# Altium footprint library MOTHERBOARD.PcbLib: 63 footprints (part 3 of 4)
Each footprint in its own frame and in the unit in brackets; x right, y up, seen from the top. Pads: shape width x height; smd on the part's side, far side on the other; paste and mask are expansions set on the pad; w line width, h text height; cw(c..) or ccw(c..) is an arc to the next point about the centre after c.
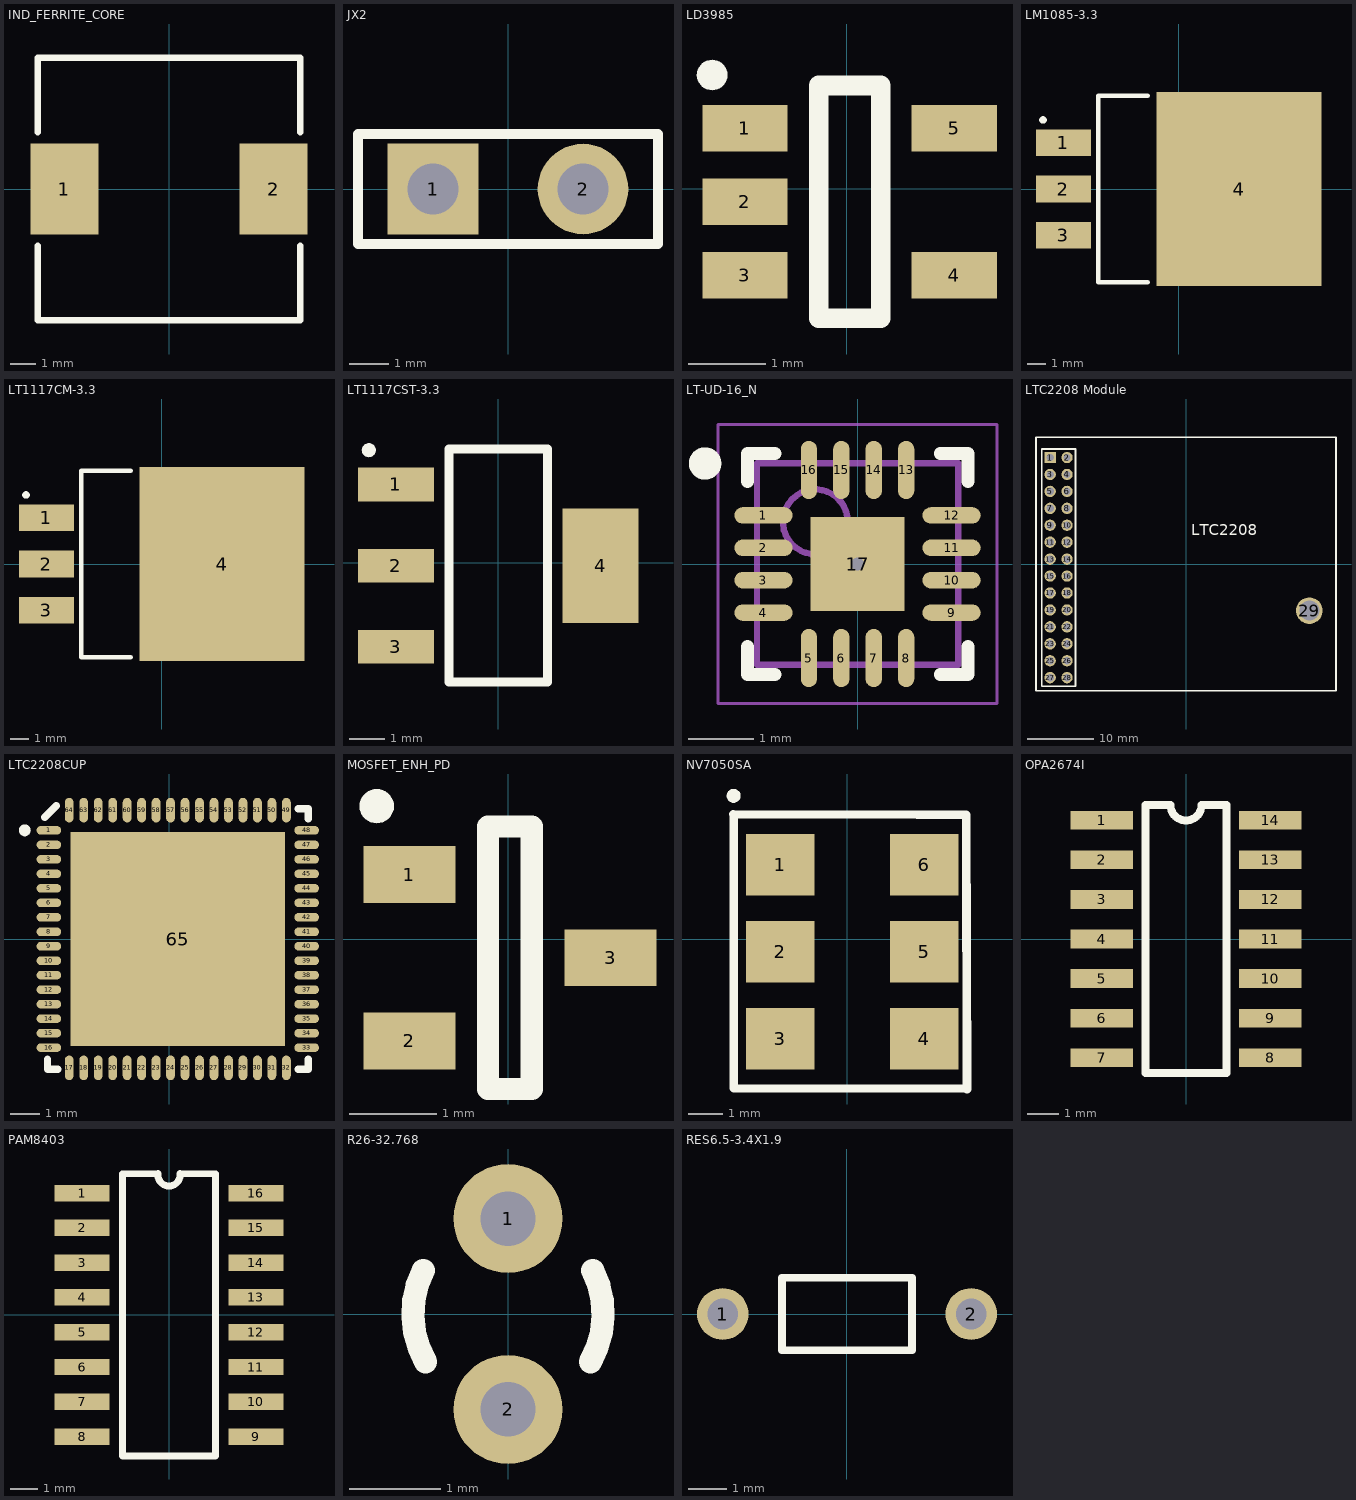
[diagram p2: the footprints below, top view; thin cyan lines are the x and y axes]

## IND_FERRITE_CORE [mm]
pads (2):
  rect 2.7x3.6 smd: 1(-4.15,0) 2(4.15,0)
Top Overlay:
  lines w0.254: -5.2,-2.25 -5.2,-5.2 5.2,-5.2 5.2,-2.25 ; -5.2,2.25 -5.2,5.2 5.2,5.2 5.2,2.25

## JX2 [mm]
pads (2):
  rect 2.3x2.3 hole 1.3: 1(-1.905,0)
  round 2.3 hole 1.3: 2(1.905,0)
Top Overlay:
  lines w0.254: -3.81,-1.4 3.81,-1.4 3.81,1.4 -3.81,1.4 -3.81,-1.4

## LD3985 [mm]
pads (5):
  rect 1.1x0.6 smd: 1(-1.316,0.785) 2(-1.316,-0.165) 3(-1.316,-1.115) 4(1.384,-1.115) 5(1.384,0.785)
Top Overlay:
  region: -1.543,1.469 -1.546,1.503 -1.555,1.536 -1.569,1.567 -1.589,1.595 -1.613,1.619 -1.641,1.638 -1.672,1.653 -1.704,1.662 -1.738,1.665 -1.772,1.662 -1.805,1.653 -1.836,1.638 -1.864,1.619 -1.888,1.595 -1.908,1.567 -1.922,1.536 -1.931,1.503 -1.934,1.469 -1.931,1.435 -1.922,1.402 -1.908,1.371 -1.888,1.343 -1.864,1.319 -1.836,1.3 -1.805,1.285 -1.772,1.276 -1.738,1.273 -1.704,1.276 -1.672,1.285 -1.641,1.3 -1.613,1.319 -1.589,1.343 -1.569,1.371 -1.555,1.402 -1.546,1.435
  lines w0.254: -0.365,-1.665 -0.365,1.335 0.435,1.335 0.435,-1.665 -0.365,-1.665

## LM1085-3.3 [mm]
pads (4):
  rect 3x1.45 smd: 1(-6.3,2.54) 2(-6.3,0) 3(-6.3,-2.54)
  rect 9x10.6 smd: 4(3.3,0)
Top Overlay:
  region: -7.223,3.776 -7.226,3.81 -7.235,3.843 -7.249,3.874 -7.269,3.902 -7.293,3.926 -7.321,3.946 -7.352,3.96 -7.385,3.969 -7.419,3.972 -7.453,3.969 -7.485,3.96 -7.517,3.946 -7.544,3.926 -7.569,3.902 -7.588,3.874 -7.603,3.843 -7.611,3.81 -7.614,3.776 -7.611,3.742 -7.603,3.709 -7.588,3.678 -7.569,3.651 -7.544,3.626 -7.517,3.607 -7.485,3.592 -7.453,3.584 -7.419,3.581 -7.385,3.584 -7.352,3.592 -7.321,3.607 -7.293,3.626 -7.269,3.651 -7.249,3.678 -7.235,3.709 -7.226,3.742
  lines w0.254: -1.7,-5.1 -4.401,-5.1 -4.401,5.1 -1.7,5.1

## LT1117CM-3.3 [mm]
pads (4):
  rect 3x1.45 smd: 1(-6.3,2.54) 2(-6.3,0) 3(-6.3,-2.54)
  rect 9x10.6 smd: 4(3.3,0)
Top Overlay:
  region: -7.223,3.776 -7.226,3.81 -7.235,3.843 -7.249,3.874 -7.269,3.902 -7.293,3.926 -7.321,3.946 -7.352,3.96 -7.385,3.969 -7.419,3.972 -7.453,3.969 -7.485,3.96 -7.517,3.946 -7.544,3.926 -7.569,3.902 -7.588,3.874 -7.603,3.843 -7.611,3.81 -7.614,3.776 -7.611,3.742 -7.603,3.709 -7.588,3.678 -7.569,3.651 -7.544,3.626 -7.517,3.607 -7.485,3.592 -7.453,3.584 -7.419,3.581 -7.385,3.584 -7.352,3.592 -7.321,3.607 -7.293,3.626 -7.269,3.651 -7.249,3.678 -7.235,3.709 -7.226,3.742
  lines w0.254: -1.7,-5.1 -4.401,-5.1 -4.401,5.1 -1.7,5.1

## LT1117CST-3.3 [mm]
pads (4):
  rect 2.15x0.95 smd: 1(-2.9,2.215) 2(-2.9,-0.085) 3(-2.9,-2.385)
  rect 2.15x3.25 smd: 4(2.9,-0.085)
Top Overlay:
  region: -3.471,3.189 -3.474,3.223 -3.483,3.256 -3.497,3.287 -3.517,3.315 -3.541,3.339 -3.569,3.358 -3.6,3.373 -3.633,3.381 -3.667,3.384 -3.701,3.381 -3.734,3.373 -3.765,3.358 -3.793,3.339 -3.817,3.315 -3.837,3.287 -3.851,3.256 -3.86,3.223 -3.863,3.189 -3.86,3.155 -3.851,3.122 -3.837,3.091 -3.817,3.063 -3.793,3.039 -3.765,3.019 -3.734,3.005 -3.701,2.996 -3.667,2.993 -3.633,2.996 -3.6,3.005 -3.569,3.019 -3.541,3.039 -3.517,3.063 -3.497,3.091 -3.483,3.122 -3.474,3.155
  lines w0.254: -1.4,-3.384 -1.4,3.215 1.4,3.215 1.4,-3.384 -1.4,-3.384

## LT-UD-16_N [mm] "QFN, 16-Leads, Body 3x3mm, Pitch 0.5mm, Thermal Pad 1.45x1.45mm, IPC Medium Density"
height 0.8
pads (17):
  oval 0.9x0.25 smd: 1(-1.45,0.75) 2(-1.45,0.25) 3(-1.45,-0.25) 4(-1.45,-0.75) 9(1.45,-0.75) 10(1.45,-0.25) 11(1.45,0.25) 12(1.45,0.75)
  oval 0.25x0.9 smd: 5(-0.75,-1.45) 6(-0.25,-1.45) 7(0.25,-1.45) 8(0.75,-1.45) 13(0.75,1.45) 14(0.25,1.45) 15(-0.25,1.45) 16(-0.75,1.45)
  rect 1.45x1.45 smd: 17(0,0)
via 0,0 diameter 0.5 hole 0.2
Top Overlay:
  circle w0.25: c-2.35,1.55 r0.125
  lines w0.2: -1.7,-1.275 -1.7,-1.7 -1.275,-1.7 ; -1.7,1.275 -1.7,1.7 -1.275,1.7 ; 1.275,-1.7 1.7,-1.7 1.7,-1.275 ; 1.275,1.7 1.7,1.7 1.7,1.275
Mechanical 13:
  circle w0.1: c-0.65,0.65 r0.5
  lines w0.1: -1.55,-1.55 1.55,-1.55 1.55,1.55 -1.55,1.55 -1.55,-1.55
Mechanical 15:
  lines w0.05: -2.15,-2.15 2.15,-2.15 2.15,2.15 -2.15,2.15 -2.15,-2.15
  lines w0.1: -0.5,0 0.5,0 ; 0,-0.5 0,0.5
3D body: height 0.8, standoff 0, extent -1.55,-1.55 1.55,1.55

## LTC2208 Module [mm]
pads (29):
  rect 1.7x1.7 hole 1.1: 1(-20.38,15.97)
  round 1.7 hole 1.1: 2(-17.84,15.97) 3(-20.38,13.43) 4(-17.84,13.43) 5(-20.38,10.89) 6(-17.84,10.89) 7(-20.38,8.35) 8(-17.84,8.35) 9(-20.38,5.81) 10(-17.84,5.81) 11(-20.38,3.27) 12(-17.84,3.27) 13(-20.38,0.73) 14(-17.84,0.73) 15(-20.38,-1.81) 16(-17.84,-1.81) 17(-20.38,-4.35) 18(-17.84,-4.35) 19(-20.38,-6.89) 20(-17.84,-6.89) 21(-20.38,-9.43) 22(-17.84,-9.43) 23(-20.38,-11.97) 24(-17.84,-11.97) 25(-20.38,-14.51) 26(-17.84,-14.51) 27(-20.38,-17.05) 28(-17.84,-17.05)
  round 4 hole 3: 29(18.5,-7)
Top Overlay:
  lines w0.254: -22.5,-19 22.5,-19 22.5,19 -22.5,19 -22.5,-19 ; -21.649,-18.32 -16.569,-18.32 -16.569,17.241 -21.649,17.241 -21.649,-18.32
  text "LTC2208" at 0.8,4.298 h1.67

## LTC2208CUP [mm]
pads (65):
  oval 0.85x0.3 smd: 1(-4.147,3.75) 2(-4.147,3.25) 3(-4.147,2.75) 4(-4.147,2.25) 5(-4.147,1.75) 6(-4.147,1.25) 7(-4.147,0.75) 8(-4.147,0.25) 9(-4.147,-0.25) 10(-4.147,-0.75) 11(-4.147,-1.25) 12(-4.147,-1.75) 13(-4.147,-2.25) 14(-4.147,-2.75) 15(-4.147,-3.25) 16(-4.147,-3.75) 33(4.753,-3.75) 34(4.753,-3.25) 35(4.753,-2.75) 36(4.753,-2.25) 37(4.753,-1.75) 38(4.753,-1.25) 39(4.753,-0.75) 40(4.753,-0.25) 41(4.753,0.25) 42(4.753,0.75) 43(4.753,1.25) 44(4.753,1.75) 45(4.753,2.25) 46(4.753,2.75) 47(4.753,3.25) 48(4.753,3.75)
  oval 0.3x0.85 smd: 17(-3.447,-4.45) 18(-2.947,-4.45) 19(-2.447,-4.45) 20(-1.947,-4.45) 21(-1.447,-4.45) 22(-0.947,-4.45) 23(-0.447,-4.45) 24(0.053,-4.45) 25(0.553,-4.45) 26(1.053,-4.45) 27(1.553,-4.45) 28(2.053,-4.45) 29(2.553,-4.45) 30(3.053,-4.45) 31(3.553,-4.45) 32(4.053,-4.45) 49(4.053,4.45) 50(3.553,4.45) 51(3.053,4.45) 52(2.553,4.45) 53(2.053,4.45) 54(1.553,4.45) 55(1.053,4.45) 56(0.553,4.45) 57(0.053,4.45) 58(-0.447,4.45) 59(-0.947,4.45) 60(-1.447,4.45) 61(-1.947,4.45) 62(-2.447,4.45) 63(-2.947,4.45) 64(-3.447,4.45)
  rect 7.4x7.4 smd: 65(0.303,0)
Top Overlay:
  region: -4.779,3.75 -4.782,3.785 -4.791,3.818 -4.806,3.85 -4.826,3.879 -4.851,3.903 -4.879,3.923 -4.911,3.938 -4.944,3.947 -4.979,3.95 -5.013,3.947 -5.047,3.938 -5.078,3.923 -5.107,3.903 -5.132,3.879 -5.151,3.85 -5.166,3.818 -5.175,3.785 -5.178,3.75 -5.175,3.716 -5.166,3.682 -5.151,3.651 -5.132,3.622 -5.107,3.598 -5.078,3.578 -5.047,3.563 -5.013,3.554 -4.979,3.551 -4.944,3.554 -4.911,3.563 -4.879,3.578 -4.851,3.598 -4.826,3.622 -4.806,3.651 -4.791,3.682 -4.782,3.716
  lines w0.254: -4.293,4.2 -3.894,4.6 ; -4.192,-4.15 -4.192,-4.5 -3.842,-4.5 ; 4.453,-4.5 4.803,-4.5 4.803,-4.15 ; 4.453,4.5 4.803,4.5 4.803,4.15

## MOSFET_ENH_PD [mm]
pads (3):
  rect 1.05x0.65 smd: 1(-1.128,0.735) 2(-1.128,-1.165) 3(1.172,-0.215)
Top Overlay:
  region: -1.305,1.519 -1.308,1.553 -1.317,1.586 -1.332,1.617 -1.351,1.645 -1.375,1.669 -1.403,1.688 -1.434,1.703 -1.467,1.712 -1.501,1.715 -1.535,1.712 -1.568,1.703 -1.599,1.688 -1.627,1.669 -1.651,1.645 -1.671,1.617 -1.685,1.586 -1.694,1.553 -1.697,1.519 -1.694,1.485 -1.685,1.452 -1.671,1.421 -1.651,1.393 -1.627,1.369 -1.599,1.349 -1.568,1.335 -1.535,1.326 -1.501,1.323 -1.467,1.326 -1.434,1.335 -1.403,1.349 -1.375,1.369 -1.351,1.393 -1.332,1.421 -1.317,1.452 -1.308,1.485
  lines w0.254: -0.228,-1.715 -0.228,1.285 0.272,1.285 0.272,-1.715 -0.228,-1.715

## NV7050SA [mm]
pads (6):
  rect 2x1.8 smd: 1(-1.948,2.17) 2(-1.948,-0.37) 3(-1.948,-2.91) 4(2.252,-2.91) 5(2.252,-0.37) 6(2.252,2.17)
Top Overlay:
  region: -3.112,4.18 -3.115,4.215 -3.124,4.248 -3.139,4.28 -3.159,4.309 -3.183,4.333 -3.212,4.353 -3.244,4.368 -3.277,4.377 -3.312,4.38 -3.347,4.377 -3.381,4.368 -3.412,4.353 -3.441,4.333 -3.465,4.309 -3.485,4.28 -3.5,4.248 -3.509,4.215 -3.512,4.18 -3.509,4.145 -3.5,4.111 -3.485,4.08 -3.465,4.051 -3.441,4.026 -3.412,4.006 -3.381,3.992 -3.347,3.983 -3.312,3.98 -3.277,3.983 -3.244,3.992 -3.212,4.006 -3.183,4.026 -3.159,4.051 -3.139,4.08 -3.124,4.111 -3.115,4.145
  lines w0.254: -3.318,3.64 2.055,3.63 3.482,3.63 ; -3.308,-4.33 -3.308,3.62 ; -3.297,-4.36 3.512,-4.37 ; 3.482,3.61 3.502,-4.38

## OPA2674I [mm]
pads (14):
  rect 2x0.6 smd: 1(-2.7,3.81) 2(-2.7,2.54) 3(-2.7,1.27) 4(-2.7,0) 5(-2.7,-1.27) 6(-2.7,-2.54) 7(-2.7,-3.81) 8(2.7,-3.81) 9(2.7,-2.54) 10(2.7,-1.27) 11(2.7,0) 12(2.7,1.27) 13(2.7,2.54) 14(2.7,3.81)
Top Overlay:
  lines w0.254: -1.3,-4.3 -1.3,4.3 -0.5,4.3 ccw(c0,4.3) 0.5,4.3 1.3,4.3 1.3,-4.3 -1.3,-4.3

## PAM8403 [mm]
pads (16):
  rect 2x0.6 smd: 1(-3.175,4.445) 2(-3.175,3.175) 3(-3.175,1.905) 4(-3.175,0.635) 5(-3.175,-0.635) 6(-3.175,-1.905) 7(-3.175,-3.175) 8(-3.175,-4.445) 9(3.175,-4.445) 10(3.175,-3.175) 11(3.175,-1.905) 12(3.175,-0.635) 13(3.175,0.635) 14(3.175,1.905) 15(3.175,3.175) 16(3.175,4.445)
Top Overlay:
  lines w0.254: -0.4,5.15 -1.7,5.15 -1.7,-5.15 1.7,-5.15 1.7,5.15 0.4,5.15 ; -0.4,5.152 ccw(c0,5.103) 0.4,5.152

## PCBComponent_1 [mm]

## R26-32.768 [mm]
pads (2):
  round 1.2 hole 0.6: 1(0,1.05) 2(0,-1.05)
Top Overlay:
  lines w0.254: -0.932,0.478 ccw(c0.005,0) -0.906,-0.526 ; 0.906,-0.526 ccw(c-0.005,0) 0.932,0.478

## RES6.5-3.4X1.9 [mm] "Resistor, Axial; Body 3.4 x 1.9 mm (LxDia. max), Lead Dia. 0.5 mm (max)"
height 1.9
pads (2):
  round 1.35 hole 0.8: 1(-3.25,0) 2(3.25,0)
Top Overlay:
  lines w0.2: -1.7,-0.95 -1.7,0.95 1.7,0.95 1.7,-0.95 -1.7,-0.95